# Altium schematic symbol library OptoCoupler.SchLib: 18 symbols
Pins are listed as number, name and electrical type; pins without a type are passive.

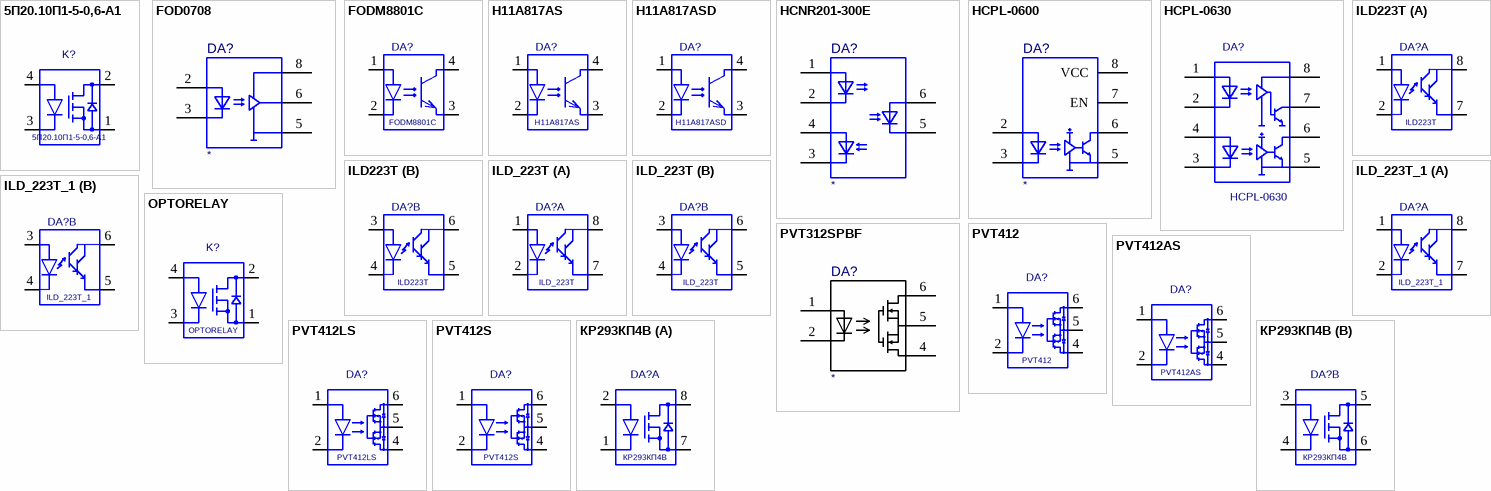
[diagram p0: symbols 5П20.10П1-5-0,6-А1 to КР293КП4В]

## 5П20.10П1-5-0,6-А1
designator K?
Value: *
footprint 5П20. -А1
pins: 1 E0, 2 C0, 3 E0, 4 C0

## FOD0708
designator DA?
footprint SO-8 OPTO
pins: 2, 3, 5 GND, 6, 8 Vcc

## FODM8801C
designator DA?
Value: *
footprint Mini-Flat-4
pins: 1, 2, 3, 4

## H11A817AS
designator DA?
Value: *
footprint SMD DIP4
pins: 1, 2, 3, 4

## H11A817ASD
designator DA?
Value: *
footprint SMD DIP4
pins: 1, 2, 3, 4

## HCNR201-300E
designator DA?
footprint DIP-8 SM
pins: 1, 2, 3, 4, 5, 6

## HCPL-0600
designator DA?
footprint SOIC8 JEDEC
pins: 2, 3, 5 GND, 6, 7 EN, 8 VCC

## HCPL-0630
designator DA?
Value: *
footprint SO-8 OPTO
pins: 1, 2, 3, 4, 5 GND, 6, 7, 8 Vcc

## ILD223T
designator DA?
Value: *
footprint SO-8 OPTO
part A pins: 1 IN+0, 2 IN-0, 7 C0, 8 E0
part B pins: 3 IN+0, 4 IN-0, 5 C0, 6 E0

## ILD_223T
designator DA?
Value: *
footprint ILD223T
part A pins: 1 IN+0, 2 IN-0, 7 C0, 8 E0
part B pins: 3 IN+0, 4 IN-0, 5 C0, 6 E0

## ILD_223T_1
designator DA?
Value: *
footprint ILD223T
part A pins: 1 IN+0, 2 IN-0, 7 C0, 8 E0
part B pins: 3 IN+0, 4 IN-0, 5 C0, 6 E0

## OPTORELAY
designator K?
Value: *
footprint 5П20. -А1
pins: 1 E0, 2 C0, 3 E0, 4 C0

## PVT312SPBF
designator DA?
footprint DIP6 SMD
pins: 1, 2, 4, 5, 6

## PVT412
designator DA?
Value: *
footprint SMT 6-PIN
pins: 1, 2, 3 hidden, 4, 5, 6

## PVT412AS
designator DA?
Value: *
footprint SMT 6-PIN
pins: 1, 2, 3 hidden, 4, 5, 6

## PVT412LS
designator DA?
Value: *
footprint SMT 6-PIN
pins: 1, 2, 3 hidden, 4, 5, 6

## PVT412S
designator DA?
Value: *
footprint SMT 6-PIN
pins: 1, 2, 3 hidden, 4, 5, 6

## КР293КП4В
designator DA?
Value: *
footprint DIP-8
part A pins: 1, 2, 7, 8
part B pins: 3, 4, 5, 6